# EAGLE library part TMS320F2803*PN (library ic-TI-DSP)
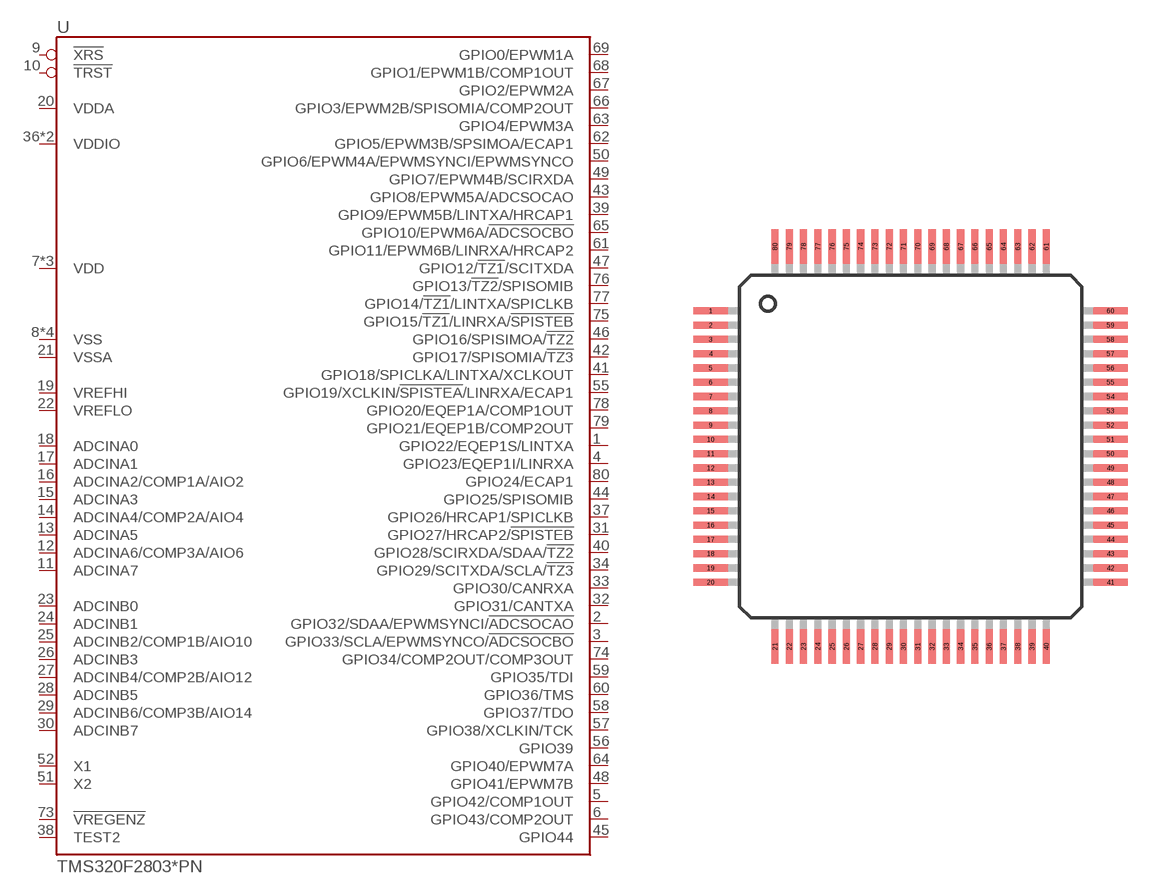
[diagram p2: symbol with the pads of QFP80-0.5; footprint QFP80-0.5]

Designator prefix U

## TMS320F28030PN, TMS320F28031PN, TMS320F28032PN, TMS320F28033PN, TMS320F28034PN, TMS320F28035PN  [QFP80-0.5]
1  GPIO22/EQEP1S/LINTXA
2  GPIO32/SDAA/EPWMSYNCI/!ADCSOCAO!
3  GPIO33/SCLA/EPWMSYNCO/!ADCSOCBO!
4  GPIO23/EQEP1I/LINRXA
5  GPIO42/COMP1OUT
6  GPIO43/COMP2OUT
7  VDD
8  VSS
9  !XRS
10  !TRST
11  ADCINA7
12  ADCINA6/COMP3A/AIO6
13  ADCINA5
14  ADCINA4/COMP2A/AIO4
15  ADCINA3
16  ADCINA2/COMP1A/AIO2
17  ADCINA1
18  ADCINA0
19  VREFHI
20  VDDA
21  VSSA
22  VREFLO
23  ADCINB0
24  ADCINB1
25  ADCINB2/COMP1B/AIO10
26  ADCINB3
27  ADCINB4/COMP2B/AIO12
28  ADCINB5
29  ADCINB6/COMP3B/AIO14
30  ADCINB7
31  GPIO27/HRCAP2/!SPISTEB!
32  GPIO31/CANTXA
33  GPIO30/CANRXA
34  GPIO29/SCITXDA/SCLA/!TZ3!
35  VSS
36  VDDIO
37  GPIO26/HRCAP1/SPICLKB
38  TEST2
39  GPIO9/EPWM5B/LINTXA/HRCAP1
40  GPIO28/SCIRXDA/SDAA/!TZ2!
41  GPIO18/SPICLKA/LINTXA/XCLKOUT
42  GPIO17/SPISOMIA/!TZ3!
43  GPIO8/EPWM5A/ADCSOCAO
44  GPIO25/SPISOMIB
45  GPIO44
46  GPIO16/SPISIMOA/!TZ2!
47  GPIO12/!TZ1!/SCITXDA
48  GPIO41/EPWM7B
49  GPIO7/EPWM4B/SCIRXDA
50  GPIO6/EPWM4A/EPWMSYNCI/EPWMSYNCO
51  X2
52  X1
53  VSS
54  VDD
55  GPIO19/XCLKIN/!SPISTEA!/LINRXA/ECAP1
56  GPIO39
57  GPIO38/XCLKIN/TCK
58  GPIO37/TDO
59  GPIO35/TDI
60  GPIO36/TMS
61  GPIO11/EPWM6B/LINRXA/HRCAP2
62  GPIO5/EPWM3B/SPSIMOA/ECAP1
63  GPIO4/EPWM3A
64  GPIO40/EPWM7A
65  GPIO10/EPWM6A/!ADCSOCBO!
66  GPIO3/EPWM2B/SPISOMIA/COMP2OUT
67  GPIO2/EPWM2A
68  GPIO1/EPWM1B/COMP1OUT
69  GPIO0/EPWM1A
70  VDDIO
71  VSS
72  VDD
73  !VREGENZ
74  GPIO34/COMP2OUT/COMP3OUT
75  GPIO15/!TZ1!/LINRXA/!SPISTEB!
76  GPIO13/!TZ2!/SPISOMIB
77  GPIO14/!TZ1!/LINTXA/SPICLKB
78  GPIO20/EQEP1A/COMP1OUT
79  GPIO21/EQEP1B/COMP2OUT
80  GPIO24/ECAP1

## Footprint QFP80-0.5 (pad centres in mm)
smd 1.2 x 0.25: 1 -7,4.75; 2 -7,4.25; 3 -7,3.75; 4 -7,3.25; 5 -7,2.75; 6 -7,2.25; 7 -7,1.75; 8 -7,1.25; 9 -7,0.75; 10 -7,0.25; 11 -7,-0.25; 12 -7,-0.75; 13 -7,-1.25; 14 -7,-1.75; 15 -7,-2.25; 16 -7,-2.75; 17 -7,-3.25; 18 -7,-3.75; 19 -7,-4.25; 20 -7,-4.75; 41 7,-4.75; 42 7,-4.25; 43 7,-3.75; 44 7,-3.25; 45 7,-2.75; 46 7,-2.25; 47 7,-1.75; 48 7,-1.25; 49 7,-0.75; 50 7,-0.25; 51 7,0.25; 52 7,0.75; 53 7,1.25; 54 7,1.75; 55 7,2.25; 56 7,2.75; 57 7,3.25; 58 7,3.75; 59 7,4.25; 60 7,4.75
smd 0.25 x 1.2: 21 -4.75,-7; 22 -4.25,-7; 23 -3.75,-7; 24 -3.25,-7; 25 -2.75,-7; 26 -2.25,-7; 27 -1.75,-7; 28 -1.25,-7; 29 -0.75,-7; 30 -0.25,-7; 31 0.25,-7; 32 0.75,-7; 33 1.25,-7; 34 1.75,-7; 35 2.25,-7; 36 2.75,-7; 37 3.25,-7; 38 3.75,-7; 39 4.25,-7; 40 4.75,-7; 61 4.75,7; 62 4.25,7; 63 3.75,7; 64 3.25,7; 65 2.75,7; 66 2.25,7; 67 1.75,7; 68 1.25,7; 69 0.75,7; 70 0.25,7; 71 -0.25,7; 72 -0.75,7; 73 -1.25,7; 74 -1.75,7; 75 -2.25,7; 76 -2.75,7; 77 -3.25,7; 78 -3.75,7; 79 -4.25,7; 80 -4.75,7